# Altium schematic symbol library testpoints.SchLib: 2 symbols
Pins are listed as number, name and electrical type; pins without a type are passive.

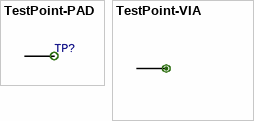
[diagram p0: symbols TestPoint-PAD to TestPoint-VIA]

## TestPoint-PAD
designator TP?  (no BOM)
Test point, pad
footprint testpoint_pad
pins: 0

## TestPoint-VIA
designator TP?  (no BOM)
Test point, thru-hole
footprint testpoint_via (top & bottom testpoint with a via)
pins: 0